# Altium schematic symbol library ABM8G-25.000MHZ-B4Y-T.SchLib: 1 symbol
Pins are listed as number, name and electrical type; pins without a type are passive.

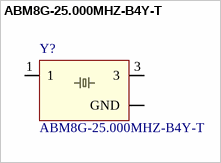
[diagram p0: symbol ABM8G-25.000MHZ-B4Y-T]

## ABM8G-25.000MHZ-B4Y-T
designator Y?
Value: *
footprint *OSCSC320X250X100N
pins: 1, 2 GND (power), 3, 4 GND (power)